# EAGLE library part MC34063 (library SW_BuckBoost)
Buck, Boost Switching Regulator IC Positive or Negative Adjustable 1.25V 1 Output 1.5A (Switch) 8-SOIC (0.154", 3.90mm Width)
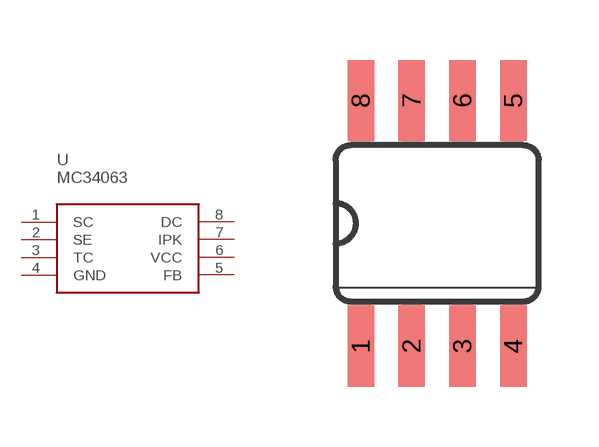
[diagram p3: symbol with the pads of SO08; footprint SO08]

Designator prefix U

## MC34063 (CATEGORY: Power; DESCRIPTION: Buck, Boost Switching Regulator IC Positive or Negative Adjustable 1.25V 1 Output 1.5A (Switch) 8-SOIC (0.154", 3.90mm Width); MFGS: Texas Instruments; MPNS: MC34063AD; PACKAGE: SOIC-8; PART_NUMBER: MC34063AD; SW_PART_NUMBER: SW0000837)  [SO08]
1  SC
2  SE
3  TC
4  GND
5  FB
6  VCC
7  IPK
8  DC

## Footprint SO08 (pad centres in mm)
smd 0.66 x 2.032: 1 -1.905,-3.073; 2 -0.635,-3.073; 3 0.635,-3.073; 4 1.905,-3.073; 5 1.905,3.073; 6 0.635,3.073; 7 -0.635,3.073; 8 -1.905,3.073